# Altium schematic symbol library SCH - OPAMP - ANALOG DEV AD8002.SCHLIB: 1 symbol
Pins are listed as number, name and electrical type; pins without a type are passive.

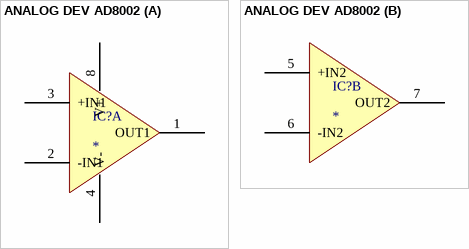
[diagram p0: symbol ANALOG DEV AD8002]

## ANALOG DEV AD8002
designator IC?
part A pins: 1 OUT1, 2 -IN1, 3 +IN1, 4 V- (power), 8 V+ (power)
part B pins: 5 +IN2, 6 -IN2, 7 OUT2